# Altium footprint library PassiveSMD.PcbLib: 4 footprints
Each footprint in its own frame and in the unit in brackets; x right, y up, seen from the top. Pads: shape width x height; smd on the part's side, far side on the other; paste and mask are expansions set on the pad; w line width, h text height; cw(c..) or ccw(c..) is an arc to the next point about the centre after c.
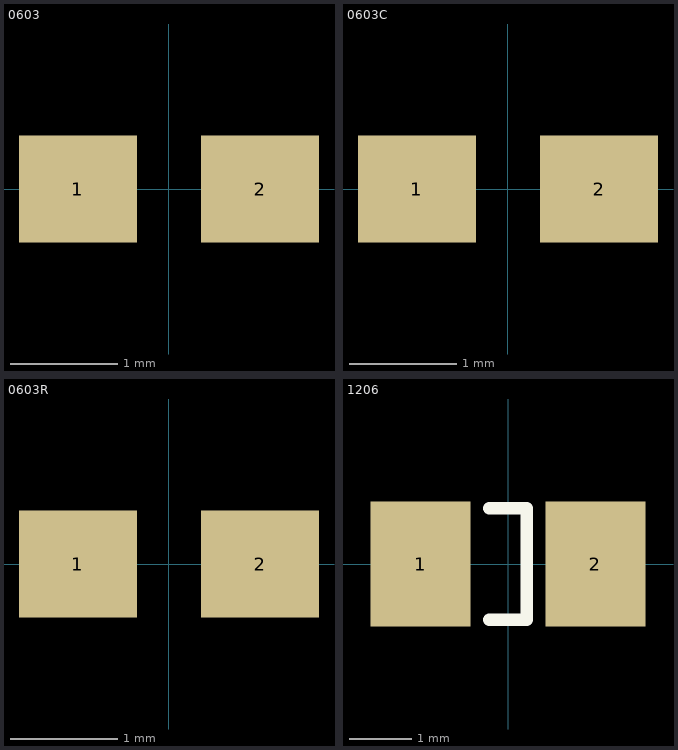
[diagram p0: the footprints below, top view; thin cyan lines are the x and y axes]

## 0603 [mm] "Chip Resistor; Body 1.6 x 0.8 mm (LxW typ)"
height 0.6
pads (2):
  rect 1.1x1 smd: 1(-0.85,0) 2(0.85,0)

## 0603C [mm] "Chip Capacitor; Body 1.6 x 0.8 mm (LxW typ)"
height 0.6
pads (2):
  rect 1.1x1 smd: 1(-0.85,0) 2(0.85,0)
3D body "0603_Ceramic-SMD.step": height 0.87, standoff -0.01, extent -0.8,-0.405 0.8,0.405

## 0603R [mm] "Chip Resistor; Body 1.6 x 0.8 mm (LxW typ)"
height 0.6
pads (2):
  rect 1.1x1 smd: 1(-0.85,0) 2(0.85,0)
3D body "0603.STEP": height 0.51, standoff 0, extent -0.8,-0.406 0.8,0.406

## 1206 [mm] "Metal Electrode Face (MELF) Resistor; Body 3.2 x 1.8 mm (LxDia)"
height 1.85
pads (2):
  rect 1.6x2 smd: 1(-1.4,0) 2(1.4,0)
Top Overlay:
  lines w0.2: -0.3,-0.889 0.3,-0.889 0.3,0.889 -0.3,0.889
3D body "LED1206R.step": height 1.11, standoff -0.4, extent -1.6,-0.787 1.6,0.813